# Altium footprint library NSC LDO.PcbLib: 95 footprints (part 5 of 6)
Each footprint in its own frame and in the unit in brackets; x right, y up, seen from the top. Pads: shape width x height; smd on the part's side, far side on the other; paste and mask are expansions set on the pad; w line width, h text height; cw(c..) or ccw(c..) is an arc to the next point about the centre after c.
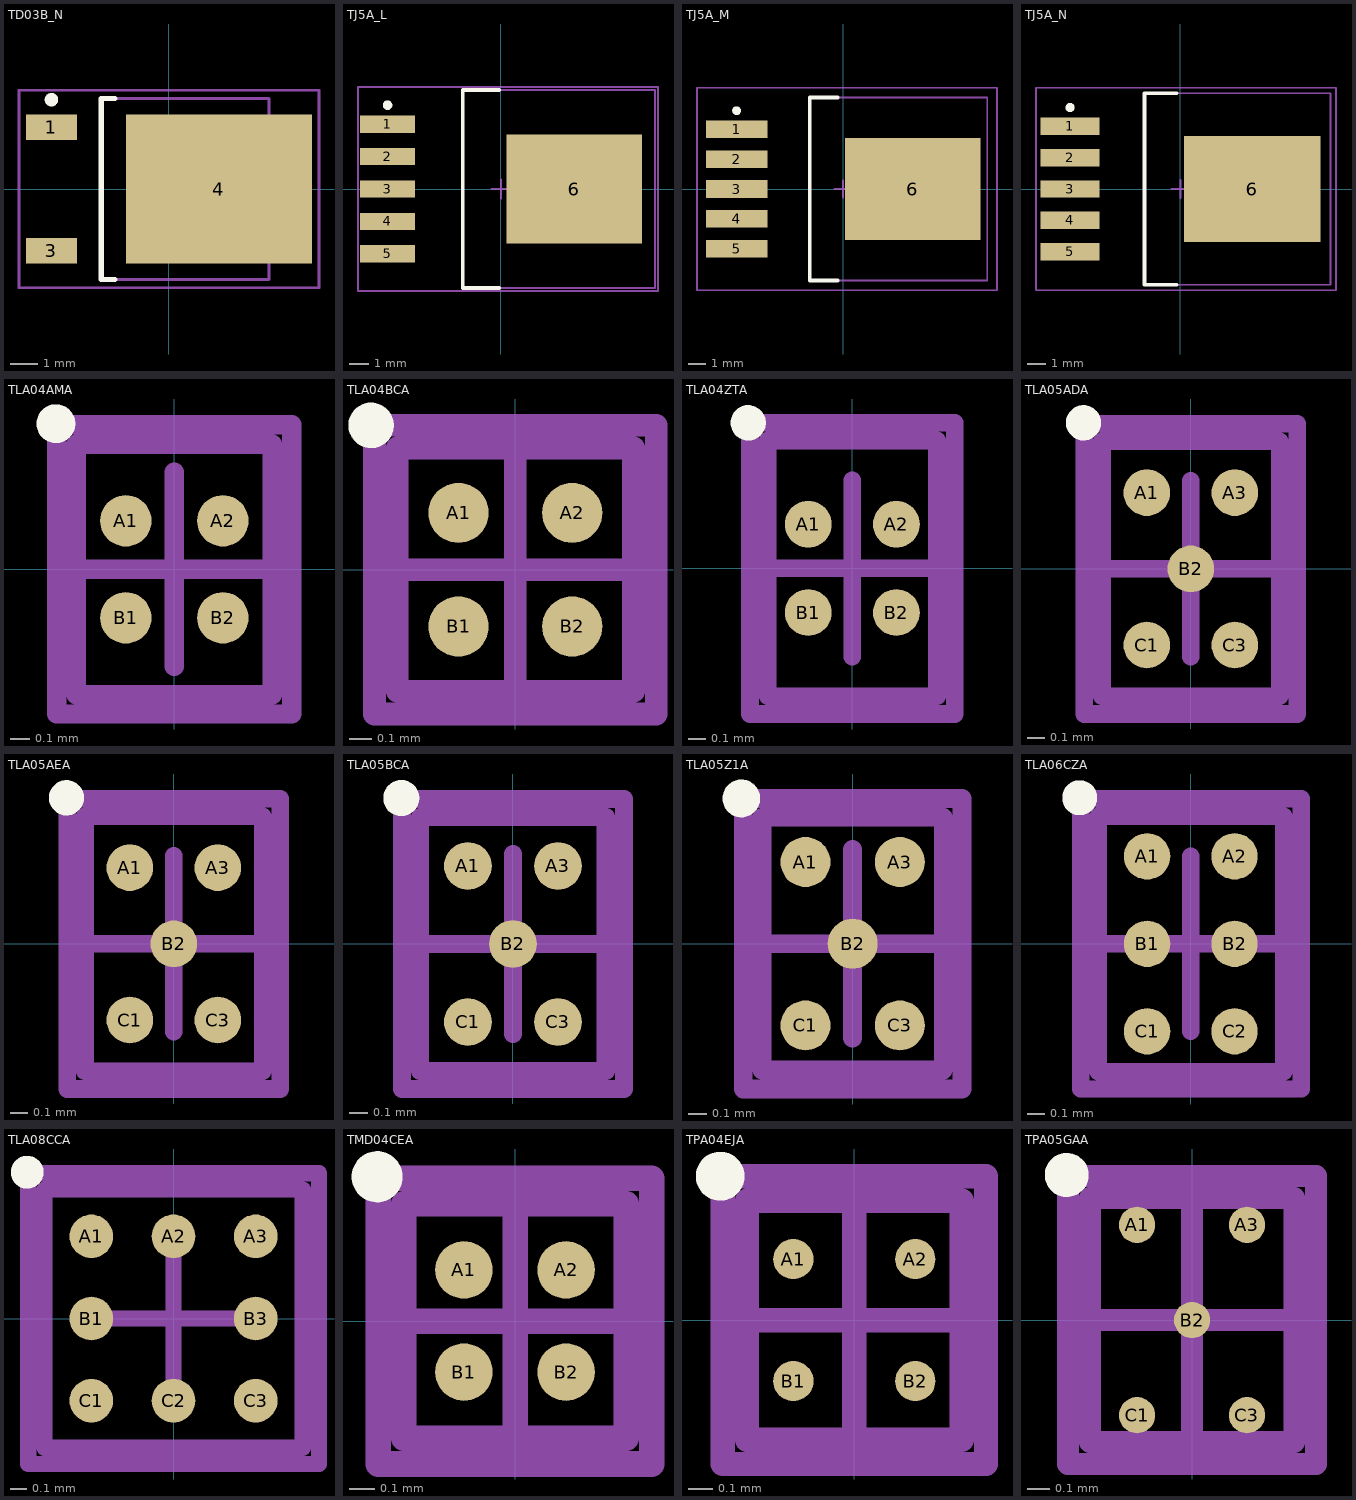
[diagram p4: the footprints below, top view; thin cyan lines are the x and y axes]

## TD03B_N [mm] "D-PAK, 4-Leads, Body 6.1x6.6mm, Pitch 2.29mm, Lead Span 9.7mm, IPC Medium Density"
height 2.38
pads (3):
  rect 1.9x0.95 smd: 1(-4.35,2.28) 3(-4.35,-2.28)
  rect 6.9x5.5 smd: 4(1.85,0)
Top Overlay:
  circle w0.25: c-4.35,3.305 r0.125
  lines w0.2: -2,-3.35 -2.5,-3.35 -2.5,3.35 -2,3.35
Mechanical 13:
  lines w0.1: -2.5,-3.35 -2.5,3.35 3.7,3.35 3.7,-3.35 -2.5,-3.35
Mechanical 15:
  lines w0.1: -0.5,0 0.5,0 ; 0,-0.5 0,0.5 ; -5.55,-3.65 -5.55,3.65 5.55,3.65 5.55,-3.65 -5.55,-3.65
3D body: height 2.38, standoff 0, extent -2.499,-3.349 3.699,3.349

## TJ5A_L [mm] "D2-PAK, 6-Leads, Body 9.9x10.2mm, Pitch 1.7mm, Lead Span 14mm, IPC High Density"
height 2.1
pads (6):
  rect 2.9x0.9 smd: 1(-5.95,3.4) 2(-5.95,1.7) 3(-5.95,0) 4(-5.95,-1.7) 5(-5.95,-3.4)
  rect 7.1x5.7 smd: 6(3.85,0)
Top Overlay:
  circle w0.25: c-5.95,4.4 r0.125
  lines w0.2: -0.1,-5.2 -2,-5.2 -2,5.2 -0.1,5.2
Mechanical 13:
  lines w0.1: -2,-5.2 8.1,-5.2 8.1,5.2 -2,5.2 -2,-5.2
Mechanical 15:
  lines w0.1: -0.5,0 0.5,0 ; 0,-0.5 0,0.5 ; -7.5,-5.35 8.25,-5.35 8.25,5.35 -7.5,5.35 -7.5,-5.35
3D body: height 2.1, standoff 0, extent -1.999,-5.199 8.099,5.199

## TJ5A_M [mm] "D2-PAK, 6-Leads, Body 9.9x10.2mm, Pitch 1.7mm, Lead Span 14mm, IPC Low Density"
height 2.1
pads (6):
  rect 3.5x1 smd: 1(-6.05,3.4) 2(-6.05,1.7) 3(-6.05,0) 4(-6.05,-1.7) 5(-6.05,-3.4)
  rect 7.7x5.8 smd: 6(3.95,0)
Top Overlay:
  circle w0.25: c-6.05,4.45 r0.125
  lines w0.2: -0.3,-5.2 -1.9,-5.2 -1.9,5.2 -0.3,5.2
Mechanical 13:
  lines w0.1: -1.9,-5.2 8.2,-5.2 8.2,5.2 -1.9,5.2 -1.9,-5.2
Mechanical 15:
  lines w0.1: -0.5,0 0.5,0 ; 0,-0.5 0,0.5 ; -8.3,-5.75 8.75,-5.75 8.75,5.75 -8.3,5.75 -8.3,-5.75
3D body: height 2.1, standoff 0, extent -1.899,-5.199 8.199,5.199

## TJ5A_N [mm] "D2-PAK, 6-Leads, Body 9.9x10.2mm, Pitch 1.7mm, Lead Span 14mm, IPC Medium Density"
height 2.1
pads (6):
  rect 3.2x0.95 smd: 1(-6,3.4) 2(-6,1.7) 3(-6,0) 4(-6,-1.7) 5(-6,-3.4)
  rect 7.4x5.75 smd: 6(3.9,0)
Top Overlay:
  circle w0.25: c-6,4.425 r0.125
  lines w0.2: -0.2,-5.2 -1.95,-5.2 -1.95,5.2 -0.2,5.2
Mechanical 13:
  lines w0.1: -1.95,-5.2 8.15,-5.2 8.15,5.2 -1.95,5.2 -1.95,-5.2
Mechanical 15:
  lines w0.1: -0.5,0 0.5,0 ; 0,-0.5 0,0.5 ; -7.85,-5.5 8.45,-5.5 8.45,5.5 -7.85,5.5 -7.85,-5.5
3D body: height 2.1, standoff 0, extent -1.949,-5.199 8.149,5.199

## TLA04AMA [mm] "Micro SMD, 4-Leads, Body 1.29x1.01mm, Pitch 0.5mm, NSC Recommended"
height 0.68
pads (4):
  round 0.265 smd paste-0.132 mask+0.05: A1(-0.25,0.25) A2(0.25,0.25) B1(-0.25,-0.25) B2(0.25,-0.25)
Top Overlay:
  circle w0.1: c-0.61,0.75 r0.05
Top Paste:
  circle w0.05: c-0.35,0.2 r0.025
  circle w0.05: c-0.2,0.35 r0.025
  circle w0.05: c-0.35,0.35 r0.025
  circle w0.05: c-0.2,0.2 r0.025
  circle w0.05: c-0.2,-0.35 r0.025
  circle w0.05: c-0.35,-0.2 r0.025
  circle w0.05: c-0.35,-0.35 r0.025
  circle w0.05: c-0.2,-0.2 r0.025
  circle w0.05: c0.35,-0.2 r0.025
  circle w0.05: c0.2,-0.35 r0.025
  circle w0.05: c0.35,-0.35 r0.025
  circle w0.05: c0.2,-0.2 r0.025
  circle w0.05: c0.2,0.35 r0.025
  circle w0.05: c0.35,0.2 r0.025
  circle w0.05: c0.35,0.35 r0.025
  circle w0.05: c0.2,0.2 r0.025
  region: -0.2,0.35 -0.2,0.2 -0.15,0.2 -0.15,0.35
  rectangle: -0.35,0.35 -0.2,0.4
  region: -0.35,0.2 -0.35,0.35 -0.4,0.35 -0.4,0.2
  region: -0.2,0.2 -0.35,0.2 -0.35,0.15 -0.2,0.15
  rectangle: -0.35,0.2 -0.2,0.35
  rectangle: -0.35,-0.2 -0.2,-0.15
  region: -0.35,-0.35 -0.35,-0.2 -0.4,-0.2 -0.4,-0.35
  region: -0.2,-0.35 -0.35,-0.35 -0.35,-0.4 -0.2,-0.4
  region: -0.2,-0.2 -0.2,-0.35 -0.15,-0.35 -0.15,-0.2
  region: -0.2,-0.35 -0.2,-0.2 -0.35,-0.2 -0.35,-0.35
  region: 0.2,-0.35 0.2,-0.2 0.15,-0.2 0.15,-0.35
  region: 0.35,-0.35 0.2,-0.35 0.2,-0.4 0.35,-0.4
  region: 0.35,-0.2 0.35,-0.35 0.4,-0.35 0.4,-0.2
  rectangle: 0.2,-0.2 0.35,-0.15
  region: 0.35,-0.2 0.2,-0.2 0.2,-0.35 0.35,-0.35
  region: 0.35,0.2 0.2,0.2 0.2,0.15 0.35,0.15
  region: 0.35,0.35 0.35,0.2 0.4,0.2 0.4,0.35
  rectangle: 0.2,0.35 0.35,0.4
  region: 0.2,0.2 0.2,0.35 0.15,0.35 0.15,0.2
  region: 0.2,0.35 0.2,0.2 0.35,0.2 0.35,0.35
Mechanical 13:
  lines w0.1: -0.505,-0.645 -0.505,0.645 0.505,0.645 0.505,-0.645 -0.505,-0.645
Mechanical 15:
  lines w0.1: -0.5,0 0.5,0 ; 0,-0.5 0,0.5 ; -0.605,-0.745 -0.605,0.745 0.605,0.745 0.605,-0.745 -0.605,-0.745
3D body: height 0.68, standoff 0, extent -0.504,-0.644 0.504,0.644

## TLA04BCA [mm] "Micro SMD, 4-Leads, Body 1.07x1.04mm, Pitch 0.5mm, NSC Recommended"
height 0.68
pads (4):
  round 0.265 smd paste-0.132 mask+0.05: A1(-0.25,0.25) A2(0.25,0.25) B1(-0.25,-0.25) B2(0.25,-0.25)
Top Overlay:
  circle w0.1: c-0.635,0.635 r0.05
Top Paste:
  circle w0.05: c0.2,0.2 r0.025
  circle w0.05: c0.35,0.35 r0.025
  circle w0.05: c0.35,0.2 r0.025
  circle w0.05: c0.2,0.35 r0.025
  circle w0.05: c0.2,-0.2 r0.025
  circle w0.05: c0.35,-0.35 r0.025
  circle w0.05: c0.2,-0.35 r0.025
  circle w0.05: c0.35,-0.2 r0.025
  circle w0.05: c-0.2,-0.2 r0.025
  circle w0.05: c-0.35,-0.35 r0.025
  circle w0.05: c-0.35,-0.2 r0.025
  circle w0.05: c-0.2,-0.35 r0.025
  circle w0.05: c-0.2,0.2 r0.025
  circle w0.05: c-0.35,0.35 r0.025
  circle w0.05: c-0.2,0.35 r0.025
  circle w0.05: c-0.35,0.2 r0.025
  region: 0.2,0.35 0.2,0.2 0.35,0.2 0.35,0.35
  region: 0.2,0.2 0.2,0.35 0.15,0.35 0.15,0.2
  rectangle: 0.2,0.35 0.35,0.4
  region: 0.35,0.35 0.35,0.2 0.4,0.2 0.4,0.35
  region: 0.35,0.2 0.2,0.2 0.2,0.15 0.35,0.15
  region: 0.35,-0.2 0.2,-0.2 0.2,-0.35 0.35,-0.35
  rectangle: 0.2,-0.2 0.35,-0.15
  region: 0.35,-0.2 0.35,-0.35 0.4,-0.35 0.4,-0.2
  region: 0.35,-0.35 0.2,-0.35 0.2,-0.4 0.35,-0.4
  region: 0.2,-0.35 0.2,-0.2 0.15,-0.2 0.15,-0.35
  region: -0.2,-0.35 -0.2,-0.2 -0.35,-0.2 -0.35,-0.35
  region: -0.2,-0.2 -0.2,-0.35 -0.15,-0.35 -0.15,-0.2
  region: -0.2,-0.35 -0.35,-0.35 -0.35,-0.4 -0.2,-0.4
  region: -0.35,-0.35 -0.35,-0.2 -0.4,-0.2 -0.4,-0.35
  rectangle: -0.35,-0.2 -0.2,-0.15
  rectangle: -0.35,0.2 -0.2,0.35
  region: -0.2,0.2 -0.35,0.2 -0.35,0.15 -0.2,0.15
  region: -0.35,0.2 -0.35,0.35 -0.4,0.35 -0.4,0.2
  rectangle: -0.35,0.35 -0.2,0.4
  region: -0.2,0.35 -0.2,0.2 -0.15,0.2 -0.15,0.35
Mechanical 13:
  lines w0.1: -0.52,-0.535 0.52,-0.535 0.52,0.535 -0.52,0.535 -0.52,-0.535
Mechanical 15:
  lines w0.1: -0.5,0 0.5,0 ; 0,-0.5 0,0.5 ; -0.62,-0.635 0.62,-0.635 0.62,0.635 -0.62,0.635 -0.62,-0.635
3D body: height 0.68, standoff 0, extent -0.519,-0.534 0.519,0.534

## TLA04ZTA [mm] "Micro SMD, 4-Leads, Body 1.45x0.96mm, Pitch 0.5mm, NSC Recommended"
height 0.68
pads (4):
  round 0.265 smd paste-0.132 mask+0.05: A1(-0.25,0.25) A2(0.25,0.25) B1(-0.25,-0.25) B2(0.25,-0.25)
Top Overlay:
  circle w0.1: c-0.59,0.825 r0.05
Top Paste:
  circle w0.05: c-0.35,0.2 r0.025
  circle w0.05: c-0.2,0.35 r0.025
  circle w0.05: c-0.35,0.35 r0.025
  circle w0.05: c-0.2,0.2 r0.025
  circle w0.05: c-0.2,-0.35 r0.025
  circle w0.05: c-0.35,-0.2 r0.025
  circle w0.05: c-0.35,-0.35 r0.025
  circle w0.05: c-0.2,-0.2 r0.025
  circle w0.05: c0.35,-0.2 r0.025
  circle w0.05: c0.2,-0.35 r0.025
  circle w0.05: c0.35,-0.35 r0.025
  circle w0.05: c0.2,-0.2 r0.025
  circle w0.05: c0.2,0.35 r0.025
  circle w0.05: c0.35,0.2 r0.025
  circle w0.05: c0.35,0.35 r0.025
  circle w0.05: c0.2,0.2 r0.025
  region: -0.2,0.35 -0.2,0.2 -0.15,0.2 -0.15,0.35
  rectangle: -0.35,0.35 -0.2,0.4
  region: -0.35,0.2 -0.35,0.35 -0.4,0.35 -0.4,0.2
  region: -0.2,0.2 -0.35,0.2 -0.35,0.15 -0.2,0.15
  rectangle: -0.35,0.2 -0.2,0.35
  rectangle: -0.35,-0.2 -0.2,-0.15
  region: -0.35,-0.35 -0.35,-0.2 -0.4,-0.2 -0.4,-0.35
  region: -0.2,-0.35 -0.35,-0.35 -0.35,-0.4 -0.2,-0.4
  region: -0.2,-0.2 -0.2,-0.35 -0.15,-0.35 -0.15,-0.2
  region: -0.2,-0.35 -0.2,-0.2 -0.35,-0.2 -0.35,-0.35
  region: 0.2,-0.35 0.2,-0.2 0.15,-0.2 0.15,-0.35
  region: 0.35,-0.35 0.2,-0.35 0.2,-0.4 0.35,-0.4
  region: 0.35,-0.2 0.35,-0.35 0.4,-0.35 0.4,-0.2
  rectangle: 0.2,-0.2 0.35,-0.15
  region: 0.35,-0.2 0.2,-0.2 0.2,-0.35 0.35,-0.35
  region: 0.35,0.2 0.2,0.2 0.2,0.15 0.35,0.15
  region: 0.35,0.35 0.35,0.2 0.4,0.2 0.4,0.35
  rectangle: 0.2,0.35 0.35,0.4
  region: 0.2,0.2 0.2,0.35 0.15,0.35 0.15,0.2
  region: 0.2,0.35 0.2,0.2 0.35,0.2 0.35,0.35
Mechanical 13:
  lines w0.1: -0.48,-0.725 0.48,-0.725 0.48,0.725 -0.48,0.725 -0.48,-0.725
Mechanical 15:
  lines w0.1: -0.5,0 0.5,0 ; 0,-0.5 0,0.5 ; -0.58,-0.825 0.58,-0.825 0.58,0.825 -0.58,0.825 -0.58,-0.825
3D body: height 0.68, standoff 0, extent -0.479,-0.724 0.479,0.724

## TLA05ADA [mm] "Micro SMD, 5-Leads, Body 1.45x1.01mm, Pitch 0.5mm, NSC Recommended"
height 0.68
pads (5):
  round 0.265 smd paste-0.132 mask+0.05: A1(-0.25,0.433) A3(0.25,0.433) B2(0,0) C1(-0.25,-0.433) C3(0.25,-0.433)
Top Overlay:
  circle w0.1: c-0.61,0.83 r0.05
Top Paste:
  circle w0.05: c-0.075,-0.075 r0.025
  circle w0.05: c0.075,0.075 r0.025
  circle w0.05: c0.075,-0.075 r0.025
  circle w0.05: c-0.075,0.075 r0.025
  circle w0.05: c0.2,0.533 r0.025
  circle w0.05: c0.35,0.383 r0.025
  circle w0.05: c0.35,0.533 r0.025
  circle w0.05: c0.2,0.383 r0.025
  circle w0.05: c0.35,-0.383 r0.025
  circle w0.05: c0.2,-0.533 r0.025
  circle w0.05: c0.35,-0.533 r0.025
  circle w0.05: c0.2,-0.383 r0.025
  circle w0.05: c-0.2,-0.533 r0.025
  circle w0.05: c-0.35,-0.383 r0.025
  circle w0.05: c-0.35,-0.533 r0.025
  circle w0.05: c-0.2,-0.383 r0.025
  circle w0.05: c-0.35,0.383 r0.025
  circle w0.05: c-0.2,0.533 r0.025
  circle w0.05: c-0.35,0.533 r0.025
  circle w0.05: c-0.2,0.383 r0.025
  region: -0.075,0.075 -0.075,-0.075 0.075,-0.075 0.075,0.075
  region: -0.075,-0.075 -0.075,0.075 -0.125,0.075 -0.125,-0.075
  rectangle: -0.075,0.075 0.075,0.125
  region: 0.075,0.075 0.075,-0.075 0.125,-0.075 0.125,0.075
  region: 0.075,-0.075 -0.075,-0.075 -0.075,-0.125 0.075,-0.125
  region: 0.35,0.383 0.2,0.383 0.2,0.333 0.35,0.333
  region: 0.35,0.533 0.35,0.383 0.4,0.383 0.4,0.533
  rectangle: 0.2,0.533 0.35,0.583
  region: 0.2,0.383 0.2,0.533 0.15,0.533 0.15,0.383
  region: 0.2,0.533 0.2,0.383 0.35,0.383 0.35,0.533
  region: 0.2,-0.533 0.2,-0.383 0.15,-0.383 0.15,-0.533
  region: 0.35,-0.533 0.2,-0.533 0.2,-0.583 0.35,-0.583
  region: 0.35,-0.383 0.35,-0.533 0.4,-0.533 0.4,-0.383
  rectangle: 0.2,-0.383 0.35,-0.333
  region: 0.35,-0.383 0.2,-0.383 0.2,-0.533 0.35,-0.533
  rectangle: -0.35,-0.383 -0.2,-0.333
  region: -0.35,-0.533 -0.35,-0.383 -0.4,-0.383 -0.4,-0.533
  region: -0.2,-0.533 -0.35,-0.533 -0.35,-0.583 -0.2,-0.583
  region: -0.2,-0.383 -0.2,-0.533 -0.15,-0.533 -0.15,-0.383
  region: -0.2,-0.533 -0.2,-0.383 -0.35,-0.383 -0.35,-0.533
  region: -0.2,0.533 -0.2,0.383 -0.15,0.383 -0.15,0.533
  rectangle: -0.35,0.533 -0.2,0.583
  region: -0.35,0.383 -0.35,0.533 -0.4,0.533 -0.4,0.383
  region: -0.2,0.383 -0.35,0.383 -0.35,0.333 -0.2,0.333
  rectangle: -0.35,0.383 -0.2,0.533
Mechanical 13:
  lines w0.1: -0.505,-0.725 0.505,-0.725 0.505,0.725 -0.505,0.725 -0.505,-0.725
Mechanical 15:
  lines w0.1: -0.5,0 0.5,0 ; 0,-0.5 0,0.5 ; -0.605,-0.825 0.605,-0.825 0.605,0.825 -0.605,0.825 -0.605,-0.825
3D body: height 0.68, standoff 0, extent -0.504,-0.724 0.504,0.724

## TLA05AEA [mm] "Micro SMD, 5-Leads, Body 1.45x1.01mm, Pitch 0.5mm, NSC Recommended"
height 0.68
pads (5):
  round 0.265 smd paste-0.132 mask+0.05: A1(-0.25,0.433) A3(0.25,0.433) B2(0,0) C1(-0.25,-0.433) C3(0.25,-0.433)
Top Overlay:
  circle w0.1: c-0.61,0.83 r0.05
Top Paste:
  circle w0.05: c-0.075,-0.075 r0.025
  circle w0.05: c0.075,0.075 r0.025
  circle w0.05: c0.075,-0.075 r0.025
  circle w0.05: c-0.075,0.075 r0.025
  circle w0.05: c0.2,0.533 r0.025
  circle w0.05: c0.35,0.383 r0.025
  circle w0.05: c0.35,0.533 r0.025
  circle w0.05: c0.2,0.383 r0.025
  circle w0.05: c0.35,-0.383 r0.025
  circle w0.05: c0.2,-0.533 r0.025
  circle w0.05: c0.35,-0.533 r0.025
  circle w0.05: c0.2,-0.383 r0.025
  circle w0.05: c-0.2,-0.533 r0.025
  circle w0.05: c-0.35,-0.383 r0.025
  circle w0.05: c-0.35,-0.533 r0.025
  circle w0.05: c-0.2,-0.383 r0.025
  circle w0.05: c-0.35,0.383 r0.025
  circle w0.05: c-0.2,0.533 r0.025
  circle w0.05: c-0.35,0.533 r0.025
  circle w0.05: c-0.2,0.383 r0.025
  region: -0.075,0.075 -0.075,-0.075 0.075,-0.075 0.075,0.075
  region: -0.075,-0.075 -0.075,0.075 -0.125,0.075 -0.125,-0.075
  rectangle: -0.075,0.075 0.075,0.125
  region: 0.075,0.075 0.075,-0.075 0.125,-0.075 0.125,0.075
  region: 0.075,-0.075 -0.075,-0.075 -0.075,-0.125 0.075,-0.125
  region: 0.35,0.383 0.2,0.383 0.2,0.333 0.35,0.333
  region: 0.35,0.533 0.35,0.383 0.4,0.383 0.4,0.533
  rectangle: 0.2,0.533 0.35,0.583
  region: 0.2,0.383 0.2,0.533 0.15,0.533 0.15,0.383
  region: 0.2,0.533 0.2,0.383 0.35,0.383 0.35,0.533
  region: 0.2,-0.533 0.2,-0.383 0.15,-0.383 0.15,-0.533
  region: 0.35,-0.533 0.2,-0.533 0.2,-0.583 0.35,-0.583
  region: 0.35,-0.383 0.35,-0.533 0.4,-0.533 0.4,-0.383
  rectangle: 0.2,-0.383 0.35,-0.333
  region: 0.35,-0.383 0.2,-0.383 0.2,-0.533 0.35,-0.533
  rectangle: -0.35,-0.383 -0.2,-0.333
  region: -0.35,-0.533 -0.35,-0.383 -0.4,-0.383 -0.4,-0.533
  region: -0.2,-0.533 -0.35,-0.533 -0.35,-0.583 -0.2,-0.583
  region: -0.2,-0.383 -0.2,-0.533 -0.15,-0.533 -0.15,-0.383
  region: -0.2,-0.533 -0.2,-0.383 -0.35,-0.383 -0.35,-0.533
  region: -0.2,0.533 -0.2,0.383 -0.15,0.383 -0.15,0.533
  rectangle: -0.35,0.533 -0.2,0.583
  region: -0.35,0.383 -0.35,0.533 -0.4,0.533 -0.4,0.383
  region: -0.2,0.383 -0.35,0.383 -0.35,0.333 -0.2,0.333
  rectangle: -0.35,0.383 -0.2,0.533
Mechanical 13:
  lines w0.1: -0.505,-0.725 0.505,-0.725 0.505,0.725 -0.505,0.725 -0.505,-0.725
Mechanical 15:
  lines w0.1: -0.5,0 0.5,0 ; 0,-0.5 0,0.5 ; -0.605,-0.825 0.605,-0.825 0.605,0.825 -0.605,0.825 -0.605,-0.825
3D body: height 0.68, standoff 0, extent -0.504,-0.724 0.504,0.724

## TLA05BCA [mm] "Micro SMD, 5-Leads, Body 1.41x1.03mm, Pitch 0.5mm, NSC Recommended"
height 0.68
pads (5):
  round 0.265 smd paste-0.132 mask+0.05: A1(-0.25,0.433) A3(0.25,0.433) B2(0,0) C1(-0.25,-0.433) C3(0.25,-0.433)
Top Overlay:
  circle w0.1: c-0.62,0.81 r0.05
Top Paste:
  circle w0.05: c-0.2,0.383 r0.025
  circle w0.05: c-0.35,0.533 r0.025
  circle w0.05: c-0.2,0.533 r0.025
  circle w0.05: c-0.35,0.383 r0.025
  circle w0.05: c-0.2,-0.383 r0.025
  circle w0.05: c-0.35,-0.533 r0.025
  circle w0.05: c-0.35,-0.383 r0.025
  circle w0.05: c-0.2,-0.533 r0.025
  circle w0.05: c0.2,-0.383 r0.025
  circle w0.05: c0.35,-0.533 r0.025
  circle w0.05: c0.2,-0.533 r0.025
  circle w0.05: c0.35,-0.383 r0.025
  circle w0.05: c0.2,0.383 r0.025
  circle w0.05: c0.35,0.533 r0.025
  circle w0.05: c0.35,0.383 r0.025
  circle w0.05: c0.2,0.533 r0.025
  circle w0.05: c-0.075,0.075 r0.025
  circle w0.05: c0.075,-0.075 r0.025
  circle w0.05: c0.075,0.075 r0.025
  circle w0.05: c-0.075,-0.075 r0.025
  rectangle: -0.35,0.383 -0.2,0.533
  region: -0.2,0.383 -0.35,0.383 -0.35,0.333 -0.2,0.333
  region: -0.35,0.383 -0.35,0.533 -0.4,0.533 -0.4,0.383
  rectangle: -0.35,0.533 -0.2,0.583
  region: -0.2,0.533 -0.2,0.383 -0.15,0.383 -0.15,0.533
  region: -0.2,-0.533 -0.2,-0.383 -0.35,-0.383 -0.35,-0.533
  region: -0.2,-0.383 -0.2,-0.533 -0.15,-0.533 -0.15,-0.383
  region: -0.2,-0.533 -0.35,-0.533 -0.35,-0.583 -0.2,-0.583
  region: -0.35,-0.533 -0.35,-0.383 -0.4,-0.383 -0.4,-0.533
  rectangle: -0.35,-0.383 -0.2,-0.333
  region: 0.35,-0.383 0.2,-0.383 0.2,-0.533 0.35,-0.533
  rectangle: 0.2,-0.383 0.35,-0.333
  region: 0.35,-0.383 0.35,-0.533 0.4,-0.533 0.4,-0.383
  region: 0.35,-0.533 0.2,-0.533 0.2,-0.583 0.35,-0.583
  region: 0.2,-0.533 0.2,-0.383 0.15,-0.383 0.15,-0.533
  region: 0.2,0.533 0.2,0.383 0.35,0.383 0.35,0.533
  region: 0.2,0.383 0.2,0.533 0.15,0.533 0.15,0.383
  rectangle: 0.2,0.533 0.35,0.583
  region: 0.35,0.533 0.35,0.383 0.4,0.383 0.4,0.533
  region: 0.35,0.383 0.2,0.383 0.2,0.333 0.35,0.333
  region: 0.075,-0.075 -0.075,-0.075 -0.075,-0.125 0.075,-0.125
  region: 0.075,0.075 0.075,-0.075 0.125,-0.075 0.125,0.075
  rectangle: -0.075,0.075 0.075,0.125
  region: -0.075,-0.075 -0.075,0.075 -0.125,0.075 -0.125,-0.075
  region: -0.075,0.075 -0.075,-0.075 0.075,-0.075 0.075,0.075
Mechanical 13:
  lines w0.1: -0.515,-0.705 0.515,-0.705 0.515,0.705 -0.515,0.705 -0.515,-0.705
Mechanical 15:
  lines w0.1: -0.5,0 0.5,0 ; 0,-0.5 0,0.5 ; -0.615,-0.805 0.615,-0.805 0.615,0.805 -0.615,0.805 -0.615,-0.805
3D body: height 0.68, standoff 0, extent -0.514,-0.704 0.514,0.704

## TLA05Z1A [mm] "Micro SMD, 5-Leads, Body 1.34x0.96mm, Pitch 0.5mm, NSC Recommended"
height 0.68
pads (5):
  round 0.265 smd paste-0.132 mask+0.05: A1(-0.25,0.433) A3(0.25,0.433) B2(0,0) C1(-0.25,-0.433) C3(0.25,-0.433)
Top Overlay:
  circle w0.1: c-0.59,0.77 r0.05
Top Paste:
  circle w0.05: c-0.075,-0.075 r0.025
  circle w0.05: c0.075,0.075 r0.025
  circle w0.05: c0.075,-0.075 r0.025
  circle w0.05: c-0.075,0.075 r0.025
  circle w0.05: c0.2,0.533 r0.025
  circle w0.05: c0.35,0.383 r0.025
  circle w0.05: c0.35,0.533 r0.025
  circle w0.05: c0.2,0.383 r0.025
  circle w0.05: c0.35,-0.383 r0.025
  circle w0.05: c0.2,-0.533 r0.025
  circle w0.05: c0.35,-0.533 r0.025
  circle w0.05: c0.2,-0.383 r0.025
  circle w0.05: c-0.2,-0.533 r0.025
  circle w0.05: c-0.35,-0.383 r0.025
  circle w0.05: c-0.35,-0.533 r0.025
  circle w0.05: c-0.2,-0.383 r0.025
  circle w0.05: c-0.35,0.383 r0.025
  circle w0.05: c-0.2,0.533 r0.025
  circle w0.05: c-0.35,0.533 r0.025
  circle w0.05: c-0.2,0.383 r0.025
  region: -0.075,0.075 -0.075,-0.075 0.075,-0.075 0.075,0.075
  region: -0.075,-0.075 -0.075,0.075 -0.125,0.075 -0.125,-0.075
  rectangle: -0.075,0.075 0.075,0.125
  region: 0.075,0.075 0.075,-0.075 0.125,-0.075 0.125,0.075
  region: 0.075,-0.075 -0.075,-0.075 -0.075,-0.125 0.075,-0.125
  region: 0.35,0.383 0.2,0.383 0.2,0.333 0.35,0.333
  region: 0.35,0.533 0.35,0.383 0.4,0.383 0.4,0.533
  rectangle: 0.2,0.533 0.35,0.583
  region: 0.2,0.383 0.2,0.533 0.15,0.533 0.15,0.383
  region: 0.2,0.533 0.2,0.383 0.35,0.383 0.35,0.533
  region: 0.2,-0.533 0.2,-0.383 0.15,-0.383 0.15,-0.533
  region: 0.35,-0.533 0.2,-0.533 0.2,-0.583 0.35,-0.583
  region: 0.35,-0.383 0.35,-0.533 0.4,-0.533 0.4,-0.383
  rectangle: 0.2,-0.383 0.35,-0.333
  region: 0.35,-0.383 0.2,-0.383 0.2,-0.533 0.35,-0.533
  rectangle: -0.35,-0.383 -0.2,-0.333
  region: -0.35,-0.533 -0.35,-0.383 -0.4,-0.383 -0.4,-0.533
  region: -0.2,-0.533 -0.35,-0.533 -0.35,-0.583 -0.2,-0.583
  region: -0.2,-0.383 -0.2,-0.533 -0.15,-0.533 -0.15,-0.383
  region: -0.2,-0.533 -0.2,-0.383 -0.35,-0.383 -0.35,-0.533
  region: -0.2,0.533 -0.2,0.383 -0.15,0.383 -0.15,0.533
  rectangle: -0.35,0.533 -0.2,0.583
  region: -0.35,0.383 -0.35,0.533 -0.4,0.533 -0.4,0.383
  region: -0.2,0.383 -0.35,0.383 -0.35,0.333 -0.2,0.333
  rectangle: -0.35,0.383 -0.2,0.533
Mechanical 13:
  lines w0.1: -0.48,-0.67 -0.48,0.67 0.48,0.67 0.48,-0.67 -0.48,-0.67
Mechanical 15:
  lines w0.1: -0.5,0 0.5,0 ; 0,-0.5 0,0.5 ; -0.58,-0.77 -0.58,0.77 0.58,0.77 0.58,-0.77 -0.58,-0.77
3D body: height 0.68, standoff 0, extent -0.479,-0.669 0.479,0.669

## TLA06CZA [mm] "Micro SMD, 6-Leads, Body 1.46x1.06mm, Pitch 0.5mm, NSC Recommended"
height 0.68
pads (6):
  round 0.265 smd paste-0.132 mask+0.05: A1(-0.25,0.5) A2(0.25,0.5) B1(-0.25,0) B2(0.25,0) C1(-0.25,-0.5) C2(0.25,-0.5)
Top Overlay:
  circle w0.1: c-0.635,0.835 r0.05
Top Paste:
  circle w0.05: c-0.35,0.45 r0.025
  circle w0.05: c-0.2,0.6 r0.025
  circle w0.05: c-0.2,0.45 r0.025
  circle w0.05: c-0.35,0.6 r0.025
  circle w0.05: c0.2,0.45 r0.025
  circle w0.05: c0.35,0.6 r0.025
  circle w0.05: c0.35,0.45 r0.025
  circle w0.05: c0.2,0.6 r0.025
  circle w0.05: c-0.35,-0.075 r0.025
  circle w0.05: c-0.2,0.075 r0.025
  circle w0.05: c-0.2,-0.075 r0.025
  circle w0.05: c-0.35,0.075 r0.025
  circle w0.05: c0.2,-0.075 r0.025
  circle w0.05: c0.35,0.075 r0.025
  circle w0.05: c0.35,-0.075 r0.025
  circle w0.05: c0.2,0.075 r0.025
  circle w0.05: c-0.35,-0.6 r0.025
  circle w0.05: c-0.2,-0.45 r0.025
  circle w0.05: c-0.2,-0.6 r0.025
  circle w0.05: c-0.35,-0.45 r0.025
  circle w0.05: c0.2,-0.6 r0.025
  circle w0.05: c0.35,-0.45 r0.025
  circle w0.05: c0.35,-0.6 r0.025
  circle w0.05: c0.2,-0.45 r0.025
  region: -0.35,0.6 -0.35,0.45 -0.2,0.45 -0.2,0.6
  region: -0.35,0.45 -0.35,0.6 -0.4,0.6 -0.4,0.45
  rectangle: -0.35,0.6 -0.2,0.65
  region: -0.2,0.6 -0.2,0.45 -0.15,0.45 -0.15,0.6
  region: -0.2,0.45 -0.35,0.45 -0.35,0.4 -0.2,0.4
  region: 0.2,0.6 0.2,0.45 0.35,0.45 0.35,0.6
  region: 0.2,0.45 0.2,0.6 0.15,0.6 0.15,0.45
  rectangle: 0.2,0.6 0.35,0.65
  region: 0.35,0.6 0.35,0.45 0.4,0.45 0.4,0.6
  region: 0.35,0.45 0.2,0.45 0.2,0.4 0.35,0.4
  region: -0.35,0.075 -0.35,-0.075 -0.2,-0.075 -0.2,0.075
  region: -0.35,-0.075 -0.35,0.075 -0.4,0.075 -0.4,-0.075
  rectangle: -0.35,0.075 -0.2,0.125
  region: -0.2,0.075 -0.2,-0.075 -0.15,-0.075 -0.15,0.075
  region: -0.2,-0.075 -0.35,-0.075 -0.35,-0.125 -0.2,-0.125
  region: 0.2,0.075 0.2,-0.075 0.35,-0.075 0.35,0.075
  region: 0.2,-0.075 0.2,0.075 0.15,0.075 0.15,-0.075
  rectangle: 0.2,0.075 0.35,0.125
  region: 0.35,0.075 0.35,-0.075 0.4,-0.075 0.4,0.075
  region: 0.35,-0.075 0.2,-0.075 0.2,-0.125 0.35,-0.125
  region: -0.35,-0.45 -0.35,-0.6 -0.2,-0.6 -0.2,-0.45
  region: -0.35,-0.6 -0.35,-0.45 -0.4,-0.45 -0.4,-0.6
  rectangle: -0.35,-0.45 -0.2,-0.4
  region: -0.2,-0.45 -0.2,-0.6 -0.15,-0.6 -0.15,-0.45
  region: -0.2,-0.6 -0.35,-0.6 -0.35,-0.65 -0.2,-0.65
  region: 0.2,-0.45 0.2,-0.6 0.35,-0.6 0.35,-0.45
  region: 0.2,-0.6 0.2,-0.45 0.15,-0.45 0.15,-0.6
  rectangle: 0.2,-0.45 0.35,-0.4
  region: 0.35,-0.45 0.35,-0.6 0.4,-0.6 0.4,-0.45
  region: 0.35,-0.6 0.2,-0.6 0.2,-0.65 0.35,-0.65
Mechanical 13:
  lines w0.1: -0.53,-0.73 -0.53,0.73 0.53,0.73 0.53,-0.73 -0.53,-0.73
Mechanical 15:
  lines w0.1: -0.5,0 0.5,0 ; 0,-0.5 0,0.5 ; -0.63,-0.83 -0.63,0.83 0.63,0.83 0.63,-0.83 -0.63,-0.83
3D body: height 0.68, standoff 0, extent -0.53,-0.73 0.53,0.73

## TLA08CCA [mm] "Micro SMD, 8-Leads, Body 1.57x1.57mm, Pitch 0.5mm, NSC Recommended"
height 0.68
pads (8):
  round 0.265 smd paste-0.132 mask+0.05: A1(-0.5,0.5) A2(0,0.5) A3(0.5,0.5) B1(-0.5,0) B3(0.5,0) C1(-0.5,-0.5) C2(0,-0.5) C3(0.5,-0.5)
Top Overlay:
  circle w0.1: c-0.89,0.89 r0.05
Top Paste:
  circle w0.05: c-0.075,0.6 r0.025
  circle w0.05: c0.075,0.45 r0.025
  circle w0.05: c0.075,0.6 r0.025
  circle w0.05: c-0.075,0.45 r0.025
  circle w0.05: c0.6,0.075 r0.025
  circle w0.05: c0.45,-0.075 r0.025
  circle w0.05: c0.6,-0.075 r0.025
  circle w0.05: c0.45,0.075 r0.025
  circle w0.05: c0.075,-0.6 r0.025
  circle w0.05: c-0.075,-0.45 r0.025
  circle w0.05: c-0.075,-0.6 r0.025
  circle w0.05: c0.075,-0.45 r0.025
  circle w0.05: c-0.6,-0.075 r0.025
  circle w0.05: c-0.45,0.075 r0.025
  circle w0.05: c-0.6,0.075 r0.025
  circle w0.05: c-0.45,-0.075 r0.025
  circle w0.05: c0.45,0.45 r0.025
  circle w0.05: c0.6,0.6 r0.025
  circle w0.05: c0.6,0.45 r0.025
  circle w0.05: c0.45,0.6 r0.025
  circle w0.05: c0.45,-0.45 r0.025
  circle w0.05: c0.6,-0.6 r0.025
  circle w0.05: c0.45,-0.6 r0.025
  circle w0.05: c0.6,-0.45 r0.025
  circle w0.05: c-0.45,-0.45 r0.025
  circle w0.05: c-0.6,-0.6 r0.025
  circle w0.05: c-0.6,-0.45 r0.025
  circle w0.05: c-0.45,-0.6 r0.025
  circle w0.05: c-0.45,0.45 r0.025
  circle w0.05: c-0.6,0.6 r0.025
  circle w0.05: c-0.45,0.6 r0.025
  circle w0.05: c-0.6,0.45 r0.025
  region: 0.075,0.45 -0.075,0.45 -0.075,0.4 0.075,0.4
  region: 0.075,0.6 0.075,0.45 0.125,0.45 0.125,0.6
  rectangle: -0.075,0.6 0.075,0.65
  region: -0.075,0.45 -0.075,0.6 -0.125,0.6 -0.125,0.45
  region: -0.075,0.6 -0.075,0.45 0.075,0.45 0.075,0.6
  region: 0.45,-0.075 0.45,0.075 0.4,0.075 0.4,-0.075
  region: 0.6,-0.075 0.45,-0.075 0.45,-0.125 0.6,-0.125
  region: 0.6,0.075 0.6,-0.075 0.65,-0.075 0.65,0.075
  rectangle: 0.45,0.075 0.6,0.125
  region: 0.6,0.075 0.45,0.075 0.45,-0.075 0.6,-0.075
  rectangle: -0.075,-0.45 0.075,-0.4
  region: -0.075,-0.6 -0.075,-0.45 -0.125,-0.45 -0.125,-0.6
  region: 0.075,-0.6 -0.075,-0.6 -0.075,-0.65 0.075,-0.65
  region: 0.075,-0.45 0.075,-0.6 0.125,-0.6 0.125,-0.45
  region: 0.075,-0.6 0.075,-0.45 -0.075,-0.45 -0.075,-0.6
  region: -0.45,0.075 -0.45,-0.075 -0.4,-0.075 -0.4,0.075
  rectangle: -0.6,0.075 -0.45,0.125
  region: -0.6,-0.075 -0.6,0.075 -0.65,0.075 -0.65,-0.075
  region: -0.45,-0.075 -0.6,-0.075 -0.6,-0.125 -0.45,-0.125
  rectangle: -0.6,-0.075 -0.45,0.075
  region: 0.45,0.6 0.45,0.45 0.6,0.45 0.6,0.6
  region: 0.45,0.45 0.45,0.6 0.4,0.6 0.4,0.45
  rectangle: 0.45,0.6 0.6,0.65
  region: 0.6,0.6 0.6,0.45 0.65,0.45 0.65,0.6
  region: 0.6,0.45 0.45,0.45 0.45,0.4 0.6,0.4
  region: 0.6,-0.45 0.45,-0.45 0.45,-0.6 0.6,-0.6
  rectangle: 0.45,-0.45 0.6,-0.4
  region: 0.6,-0.45 0.6,-0.6 0.65,-0.6 0.65,-0.45
  region: 0.6,-0.6 0.45,-0.6 0.45,-0.65 0.6,-0.65
  region: 0.45,-0.6 0.45,-0.45 0.4,-0.45 0.4,-0.6
  region: -0.45,-0.6 -0.45,-0.45 -0.6,-0.45 -0.6,-0.6
  region: -0.45,-0.45 -0.45,-0.6 -0.4,-0.6 -0.4,-0.45
  region: -0.45,-0.6 -0.6,-0.6 -0.6,-0.65 -0.45,-0.65
  region: -0.6,-0.6 -0.6,-0.45 -0.65,-0.45 -0.65,-0.6
  rectangle: -0.6,-0.45 -0.45,-0.4
  rectangle: -0.6,0.45 -0.45,0.6
  region: -0.45,0.45 -0.6,0.45 -0.6,0.4 -0.45,0.4
  region: -0.6,0.45 -0.6,0.6 -0.65,0.6 -0.65,0.45
  rectangle: -0.6,0.6 -0.45,0.65
  region: -0.45,0.6 -0.45,0.45 -0.4,0.45 -0.4,0.6
Mechanical 13:
  lines w0.1: -0.785,-0.785 0.785,-0.785 0.785,0.785 -0.785,0.785 -0.785,-0.785
Mechanical 15:
  lines w0.1: -0.5,0 0.5,0 ; 0,-0.5 0,0.5 ; -0.885,-0.885 0.885,-0.885 0.885,0.885 -0.885,0.885 -0.885,-0.885
3D body: height 0.68, standoff 0, extent -0.784,-0.784 0.784,0.784

## TMD04CEA [mm] "Micro SMD, 4-Leads, Body 0.92x0.87mm, Pitch 0.4mm, NSC Recommended"
height 0.68
pads (4):
  round 0.225 smd paste-0.112 mask+0.05: A1(-0.2,0.2) A2(0.2,0.2) B1(-0.2,-0.2) B2(0.2,-0.2)
Top Overlay:
  circle w0.1: c-0.54,0.565 r0.05
Top Paste:
  circle w0.05: c0.15,0.15 r0.025
  circle w0.05: c0.3,0.3 r0.025
  circle w0.05: c0.3,0.15 r0.025
  circle w0.05: c0.15,0.3 r0.025
  circle w0.05: c0.15,-0.15 r0.025
  circle w0.05: c0.3,-0.3 r0.025
  circle w0.05: c0.3,-0.15 r0.025
  circle w0.05: c0.15,-0.3 r0.025
  circle w0.05: c-0.15,0.15 r0.025
  circle w0.05: c-0.3,0.3 r0.025
  circle w0.05: c-0.3,0.15 r0.025
  circle w0.05: c-0.15,0.3 r0.025
  circle w0.05: c-0.15,-0.15 r0.025
  circle w0.05: c-0.3,-0.3 r0.025
  circle w0.05: c-0.3,-0.15 r0.025
  circle w0.05: c-0.15,-0.3 r0.025
  region: 0.15,0.3 0.15,0.15 0.3,0.15 0.3,0.3
  region: 0.15,0.15 0.15,0.3 0.1,0.3 0.1,0.15
  rectangle: 0.15,0.3 0.3,0.35
  region: 0.3,0.3 0.3,0.15 0.35,0.15 0.35,0.3
  region: 0.3,0.15 0.15,0.15 0.15,0.1 0.3,0.1
  region: 0.3,-0.3 0.3,-0.15 0.15,-0.15 0.15,-0.3
  region: 0.1,-0.15 0.1,-0.3 0.15,-0.3 0.15,-0.15
  rectangle: 0.15,-0.35 0.3,-0.3
  region: 0.35,-0.3 0.35,-0.15 0.3,-0.15 0.3,-0.3
  region: 0.3,-0.1 0.15,-0.1 0.15,-0.15 0.3,-0.15
  region: -0.3,0.3 -0.3,0.15 -0.15,0.15 -0.15,0.3
  region: -0.1,0.15 -0.1,0.3 -0.15,0.3 -0.15,0.15
  region: -0.15,0.35 -0.3,0.35 -0.3,0.3 -0.15,0.3
  region: -0.35,0.3 -0.35,0.15 -0.3,0.15 -0.3,0.3
  rectangle: -0.3,0.1 -0.15,0.15
  region: -0.15,-0.3 -0.15,-0.15 -0.3,-0.15 -0.3,-0.3
  region: -0.15,-0.15 -0.15,-0.3 -0.1,-0.3 -0.1,-0.15
  region: -0.15,-0.3 -0.3,-0.3 -0.3,-0.35 -0.15,-0.35
  region: -0.3,-0.3 -0.3,-0.15 -0.35,-0.15 -0.35,-0.3
  rectangle: -0.3,-0.15 -0.15,-0.1
Mechanical 13:
  lines w0.1: -0.435,-0.46 -0.435,0.46 0.435,0.46 0.435,-0.46 -0.435,-0.46
Mechanical 15:
  lines w0.1: -0.5,0 0.5,0 ; 0,-0.5 0,0.5 ; -0.535,-0.56 -0.535,0.56 0.535,0.56 0.535,-0.56 -0.535,-0.56
3D body: height 0.68, standoff 0, extent -0.434,-0.459 0.434,0.459

## TPA04EJA [mm] "Micro SMD, 4-Leads, Body 0.98x0.88mm, Pitch 0.5mm, NSC Recommended"
height 0.58
pads (4):
  round 0.165 smd paste-0.082 mask+0.05: A1(-0.25,0.25) A2(0.25,0.25) B1(-0.25,-0.25) B2(0.25,-0.25)
Top Overlay:
  circle w0.1: c-0.55,0.59 r0.05
Top Paste:
  circle w0.05: c-0.175,0.375 r0.025
  circle w0.05: c-0.375,0.175 r0.025
  circle w0.05: c-0.375,0.375 r0.025
  circle w0.05: c-0.175,0.175 r0.025
  circle w0.05: c-0.375,-0.175 r0.025
  circle w0.05: c-0.175,-0.375 r0.025
  circle w0.05: c-0.375,-0.375 r0.025
  circle w0.05: c-0.175,-0.175 r0.025
  circle w0.05: c0.175,-0.375 r0.025
  circle w0.05: c0.375,-0.175 r0.025
  circle w0.05: c0.375,-0.375 r0.025
  circle w0.05: c0.175,-0.175 r0.025
  circle w0.05: c0.375,0.175 r0.025
  circle w0.05: c0.175,0.375 r0.025
  circle w0.05: c0.375,0.375 r0.025
  circle w0.05: c0.175,0.175 r0.025
  region: -0.125,0.175 -0.125,0.375 -0.175,0.375 -0.175,0.175
  region: -0.375,0.375 -0.375,0.175 -0.175,0.175 -0.175,0.375
  region: -0.425,0.375 -0.425,0.175 -0.375,0.175 -0.375,0.375
  region: -0.175,0.425 -0.375,0.425 -0.375,0.375 -0.175,0.375
  rectangle: -0.375,0.125 -0.175,0.175
  region: -0.175,-0.125 -0.375,-0.125 -0.375,-0.175 -0.175,-0.175
  rectangle: -0.375,-0.375 -0.175,-0.175
  rectangle: -0.375,-0.425 -0.175,-0.375
  region: -0.425,-0.175 -0.425,-0.375 -0.375,-0.375 -0.375,-0.175
  region: -0.125,-0.375 -0.125,-0.175 -0.175,-0.175 -0.175,-0.375
  region: 0.125,-0.175 0.125,-0.375 0.175,-0.375 0.175,-0.175
  region: 0.375,-0.375 0.375,-0.175 0.175,-0.175 0.175,-0.375
  region: 0.425,-0.375 0.425,-0.175 0.375,-0.175 0.375,-0.375
  rectangle: 0.175,-0.425 0.375,-0.375
  region: 0.375,-0.125 0.175,-0.125 0.175,-0.175 0.375,-0.175
  rectangle: 0.175,0.125 0.375,0.175
  region: 0.375,0.375 0.175,0.375 0.175,0.175 0.375,0.175
  region: 0.375,0.425 0.175,0.425 0.175,0.375 0.375,0.375
  region: 0.425,0.175 0.425,0.375 0.375,0.375 0.375,0.175
  region: 0.125,0.375 0.125,0.175 0.175,0.175 0.175,0.375
Mechanical 13:
  lines w0.1: -0.44,-0.49 0.44,-0.49 0.44,0.49 -0.44,0.49 -0.44,-0.49
Mechanical 15:
  lines w0.1: -0.5,0 0.5,0 ; 0,-0.5 0,0.5 ; -0.54,-0.59 0.54,-0.59 0.54,0.59 -0.54,0.59 -0.54,-0.59
3D body: height 0.58, standoff 0, extent -0.439,-0.489 0.439,0.489

## TPA05GAA [mm] "Micro SMD, 5-Leads, Body 1.11x0.93mm, Pitch 0.5mm, NSC Recommended"
height 0.58
pads (5):
  round 0.165 smd paste-0.082 mask+0.05: A1(-0.25,0.433) A3(0.25,0.433) B2(0,0) C1(-0.25,-0.433) C3(0.25,-0.433)
Top Overlay:
  circle w0.1: c-0.57,0.66 r0.05
Top Paste:
  circle w0.05: c-0.1,-0.1 r0.025
  circle w0.05: c0.1,0.1 r0.025
  circle w0.05: c-0.1,0.1 r0.025
  circle w0.05: c0.1,-0.1 r0.025
  circle w0.05: c0.175,0.358 r0.025
  circle w0.05: c0.375,0.558 r0.025
  circle w0.05: c0.375,0.358 r0.025
  circle w0.05: c0.175,0.558 r0.025
  circle w0.05: c0.175,-0.358 r0.025
  circle w0.05: c0.375,-0.558 r0.025
  circle w0.05: c0.175,-0.558 r0.025
  circle w0.05: c0.375,-0.358 r0.025
  circle w0.05: c-0.175,-0.358 r0.025
  circle w0.05: c-0.375,-0.558 r0.025
  circle w0.05: c-0.375,-0.358 r0.025
  circle w0.05: c-0.175,-0.558 r0.025
  circle w0.05: c-0.175,0.358 r0.025
  circle w0.05: c-0.375,0.558 r0.025
  circle w0.05: c-0.175,0.558 r0.025
  circle w0.05: c-0.375,0.358 r0.025
  region: 0.1,-0.1 -0.1,-0.1 -0.1,-0.15 0.1,-0.15
  rectangle: -0.1,-0.1 0.1,0.1
  rectangle: -0.1,0.1 0.1,0.15
  region: -0.1,-0.1 -0.1,0.1 -0.15,0.1 -0.15,-0.1
  region: 0.1,0.1 0.1,-0.1 0.15,-0.1 0.15,0.1
  region: 0.375,0.358 0.175,0.358 0.175,0.308 0.375,0.308
  rectangle: 0.175,0.558 0.375,0.608
  region: 0.375,0.558 0.375,0.358 0.425,0.358 0.425,0.558
  region: 0.175,0.558 0.175,0.358 0.375,0.358 0.375,0.558
  region: 0.175,0.358 0.175,0.558 0.125,0.558 0.125,0.358
  region: 0.175,-0.558 0.175,-0.358 0.125,-0.358 0.125,-0.558
  region: 0.375,-0.358 0.375,-0.558 0.425,-0.558 0.425,-0.358
  region: 0.375,-0.558 0.175,-0.558 0.175,-0.608 0.375,-0.608
  region: 0.375,-0.358 0.175,-0.358 0.175,-0.558 0.375,-0.558
  rectangle: 0.175,-0.358 0.375,-0.308
  rectangle: -0.375,-0.358 -0.175,-0.308
  region: -0.175,-0.558 -0.375,-0.558 -0.375,-0.608 -0.175,-0.608
  region: -0.375,-0.558 -0.375,-0.358 -0.425,-0.358 -0.425,-0.558
  region: -0.175,-0.558 -0.175,-0.358 -0.375,-0.358 -0.375,-0.558
  region: -0.175,-0.358 -0.175,-0.558 -0.125,-0.558 -0.125,-0.358
  region: -0.175,0.558 -0.175,0.358 -0.125,0.358 -0.125,0.558
  region: -0.375,0.358 -0.375,0.558 -0.425,0.558 -0.425,0.358
  rectangle: -0.375,0.558 -0.175,0.608
  rectangle: -0.375,0.358 -0.175,0.558
  region: -0.175,0.358 -0.375,0.358 -0.375,0.308 -0.175,0.308
Mechanical 13:
  lines w0.1: -0.465,-0.555 0.465,-0.555 0.465,0.555 -0.465,0.555 -0.465,-0.555
Mechanical 15:
  lines w0.1: -0.5,0 0.5,0 ; 0,-0.5 0,0.5 ; -0.565,-0.655 0.565,-0.655 0.565,0.655 -0.565,0.655 -0.565,-0.655
3D body: height 0.58, standoff 0, extent -0.464,-0.554 0.464,0.554